# Altium schematic symbol library CONN_USB_A_Female.SchLib: 1 symbol
Pins are listed as number, name and electrical type; pins without a type are passive.

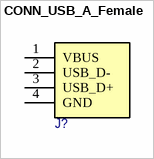
[diagram p0: symbol CONN_USB_A_Female]

## CONN_USB_A_Female
designator J?  (value not drawn)
pins: 1 VBUS, 2 USB_D-, 3 USB_D+, 4 GND